# Altium footprint library Dashboard.PcbLib: 17 footprints (part 1 of 2)
Each footprint in its own frame and in the unit in brackets; x right, y up, seen from the top. Pads: shape width x height; smd on the part's side, far side on the other; paste and mask are expansions set on the pad; w line width, h text height; cw(c..) or ccw(c..) is an arc to the next point about the centre after c.
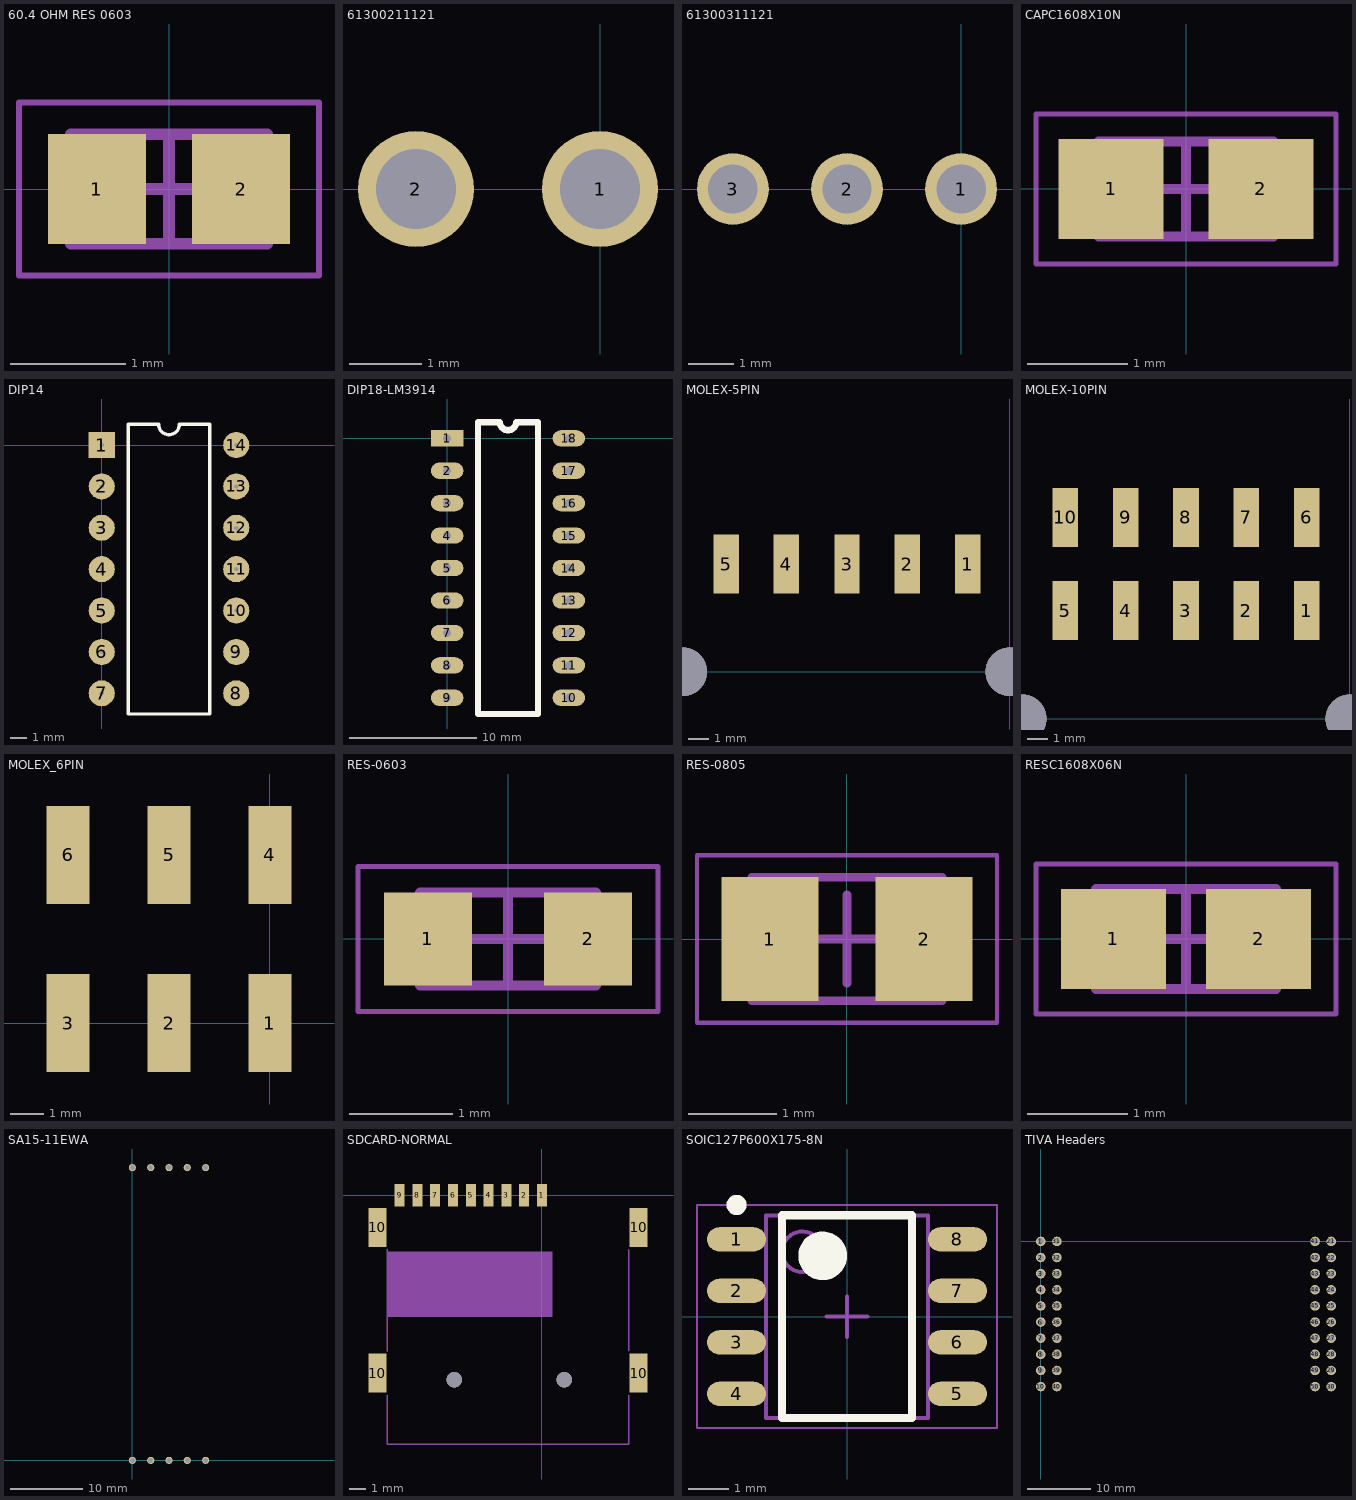
[diagram p0: the footprints below, top view; thin cyan lines are the x and y axes]

## 60.4 OHM RES 0603 [mm] "60.4 Ohms ±1% 0.1W, 1/10W Chip Resistor 0603 (1608 Metric) Automotive AEC-Q200 Thick Film"
height 0.55
pads (2):
  rect 0.85x0.95 smd: 1(-0.625,0) 2(0.625,0)
Mechanical 13:
  lines w0.1: -0.85,-0.475 -0.85,0.475 0.85,0.475 0.85,-0.475 -0.85,-0.475
Mechanical 15:
  lines w0.05: -1.3,-0.75 -1.3,0.75 1.3,0.75 1.3,-0.75 -1.3,-0.75
  lines w0.1: -0.475,0 0.475,0 ; 0,-0.475 0,0.475
3D body "60.4 OHM RES 0603.step": height 0.55, standoff 0, extent -0.85,-0.475 0.85,0.475

## 61300211121 [mm] "Connector Header Through Hole 2 position 0.100\" (2.54mm)"
pads (2):
  round 1.6 hole 1.1: 1(0,0) 2(-2.54,0)
3D body "61300211121.stp": height 8.27, standoff -3.27, extent -3.84,-1.27 1.24,1.27

## 61300311121 [mm] "Connector Header Through Hole 3 position 0.100\" (2.54mm)"
pads (3):
  round 1.6 hole 1.1: 1(0,0) 2(-2.54,0) 3(-5.08,0)
3D body "61300311121.stp": height 8.27, standoff -3.27, extent -6.35,-1.27 1.27,1.27

## CAPC1608X10N [mm] "Chip Capacitor, 2-Leads, Body 1.60x0.80mm, IPC Medium Density"
height 0.95
pads (2):
  rect 1.05x1 smd: 1(-0.75,0) 2(0.75,0)
Mechanical 13:
  lines w0.1: -0.875,-0.475 0.875,-0.475 0.875,0.475 -0.875,0.475 -0.875,-0.475
Mechanical 15:
  lines w0.05: -1.5,-0.75 1.5,-0.75 1.5,0.75 -1.5,0.75 -1.5,-0.75
  lines w0.1: -0.475,0 0.475,0 ; 0,-0.475 0,0.475
3D body "CAPC1608X10N.step": height 0.95, standoff 0, extent -0.875,-0.475 0.875,0.475

## DIP14 [mm]
pads (14):
  rect 1.6x1.6 hole 0.25: 1(0,0)
  round 1.6 hole 0.25: 2(0,-2.54) 3(0,-5.08) 4(0,-7.62) 5(0,-10.16) 6(0,-12.7) 7(0,-15.24) 8(8.26,-15.24) 9(8.26,-12.7) 10(8.26,-10.16) 11(8.26,-7.62) 12(8.26,-5.08) 13(8.26,-2.54) 14(8.26,0)
Top Overlay:
  lines w0.2: 1.635,-16.51 1.635,1.27 3.495,1.27 ccw(c4.13,1.27) 4.765,1.27 6.625,1.27 6.625,-16.51 1.635,-16.51

## DIP18-LM3914 [mm]
pads (18):
  rect 2.54x1.27 hole 0.635: 1(0,0)
  oval 2.54x1.27 hole 0.635: 2(0,-2.54) 3(0,-5.08) 4(0,-7.62) 5(0,-10.16) 6(0,-12.7) 7(0,-15.24) 8(0,-17.78) 9(0,-20.32) 10(9.525,-20.32) 11(9.525,-17.78) 12(9.525,-15.24) 13(9.525,-12.7) 14(9.525,-10.16) 15(9.525,-7.62) 16(9.525,-5.08) 17(9.525,-2.54) 18(9.525,0)
Top Overlay:
  lines w0.508: 2.413,-21.59 7.112,-21.59 7.112,1.27 5.397,1.27 cw(c4.763,1.27) 4.127,1.27 2.413,1.27 2.413,-21.59

## MOLEX-5PIN [mm] "Connector Header Surface Mount, Right Angle 5 position 0.118\" (3.00mm)"
pads (5):
  rect 1.27x2.92 smd: 1(-2.09,5.375) 2(-5.115,5.375) 3(-8.115,5.375) 4(-11.14,5.375) 5(-14.14,5.375)
via -16.3,0 diameter 2.41 hole 2.41
via 0,0 diameter 2.41 hole 2.41
3D body "436500509.stp": height 5.14, standoff -2.47, extent -17.44,-4.63 1.2,6.11

## MOLEX-10PIN [mm] "Connector Header Surface Mount, Right Angle 10 position 0.118\" (3.00mm)"
pads (10):
  rect 1.27x2.92 smd: 1(-2.15,5.38) 2(-5.15,5.38) 3(-8.15,5.38) 4(-11.15,5.38) 5(-14.15,5.38) 6(-2.15,10.01) 7(-5.15,10.01) 8(-8.15,10.01) 9(-11.15,10.01) 10(-14.15,10.01)
via -16.3,0 diameter 2.41 hole 2.41
via 0,0 diameter 2.41 hole 2.41
3D body "430451006.stp": height 8.73, standoff -2.03, extent -17.625,-4.605 1.525,10.795

## MOLEX_6PIN [mm] "0430450606"
pads (6):
  rect 1.27x2.92 smd: 1(0,0) 2(-3,0) 3(-6,0) 4(0,5) 5(-3,5) 6(-6,5)
via 2.15,-5.06 diameter 2.41 hole 2.41
via -8.15,-5.06 diameter 2.41 hole 2.41
3D body "430450606.stp": height 8.73, standoff -2.03, extent -9.575,-9.655 3.575,5.745

## RES-0603 [mm] "Chip Resistor, 2-Leads, Body 1.60x0.80mm, IPC Medium Density"
height 0.55
pads (2):
  rect 0.85x0.9 smd: 1(-0.775,0) 2(0.775,0)
Mechanical 13:
  lines w0.1: -0.85,-0.45 -0.85,0.45 0.85,0.45 0.85,-0.45 -0.85,-0.45
Mechanical 15:
  lines w0.05: -1.45,-0.7 -1.45,0.7 1.45,0.7 1.45,-0.7 -1.45,-0.7
  lines w0.1: -0.45,0 0.45,0 ; 0,-0.45 0,0.45
3D body "RESC1608X06N.step": height 0.55, standoff 0, extent -0.85,-0.45 0.85,0.45

## RES-0805 [mm] "Chip Resistor, 2-Leads, Body 2.00x1.25mm, IPC Medium Density"
height 0.6
pads (2):
  rect 1.1x1.4 smd: 1(-0.875,0) 2(0.875,0)
Mechanical 13:
  lines w0.1: -1.075,-0.7 1.075,-0.7 1.075,0.7 -1.075,0.7 -1.075,-0.7
Mechanical 15:
  lines w0.05: -1.7,-0.95 1.7,-0.95 1.7,0.95 -1.7,0.95 -1.7,-0.95
  lines w0.1: -0.5,0 0.5,0 ; 0,-0.5 0,0.5
3D body "RESC2012X06N.step": height 0.6, standoff 0, extent -1.075,-0.7 1.075,0.7

## RESC1608X06N [mm] "Chip Resistor, 2-Leads, Body 1.60x0.80mm, IPC Medium Density"
height 0.55
pads (2):
  rect 1.05x1 smd: 1(-0.725,0) 2(0.725,0)
Mechanical 13:
  lines w0.1: -0.9,-0.5 -0.9,0.5 0.9,0.5 0.9,-0.5 -0.9,-0.5
Mechanical 15:
  lines w0.05: -1.5,-0.75 -1.5,0.75 1.5,0.75 1.5,-0.75 -1.5,-0.75
  lines w0.1: -0.5,0 0.5,0 ; 0,-0.5 0,0.5
3D body "RESC1608X06N.step": height 0.55, standoff 0, extent -0.9,-0.5 0.9,0.5

## SA15-11EWA [mm] "1.5\" 7 Segment Display"
pads (10):
  round 1 hole 0.7: 1(0,0) 2(2.54,0) 3(5.08,0) 4(7.62,0) 5(10.16,0) 6(10.16,40.64) 7(7.62,40.64) 8(5.08,40.64) 9(2.54,40.64) 10(0,40.64)
3D body "SA15-11.sldprt": height 12.5, standoff -4, extent -11.475,-3.2 21.675,43.8

## SDCARD-NORMAL [mm] "9 (8 + 1) Position Card Connector microSD™ Surface Mount, Right Angle Gold"
pads (13):
  rect 0.62x1.4 smd: 1(0,0) 2(-1.1,0) 3(-2.2,0) 4(-3.3,0) 5(-4.4,0) 6(-5.5,0) 7(-6.6,0) 8(-7.7,0) 9(-8.8,0)
  rect 1.1x2.4 smd: 10(-10.175,-11) 10(-10.175,-2) 10(5.975,-11) 10(5.975,-2)
via -5.425,-11.425 diameter 0.95 hole 0.95
via 1.375,-11.425 diameter 0.95 hole 0.95
Mechanical 1:
  region: 0.65,-7.55 0.65,-3.5 -9.55,-3.5 -9.55,-7.55
  lines w0.1: -9.575,-12.375 -9.575,-15.4 5.375,-15.4 5.375,-12.375 ; -9.575,-9.65 -9.575,-3.35 ; 5.375,-9.625 5.375,-3.375

## SOIC127P600X175-8N [mm] "SOIC, 8-Leads, Body 4.90x3.90mm, Pitch 1.27mm, IPC Medium Density"
height 1.75
pads (8):
  oval 1.45x0.6 smd: 1(-2.725,1.905) 2(-2.725,0.635) 3(-2.725,-0.635) 4(-2.725,-1.905) 5(2.725,-1.905) 6(2.725,-0.635) 7(2.725,0.635) 8(2.725,1.905)
Top Overlay:
  circle w0.25: c-2.725,2.755 r0.125
  circle w0.6: c-0.6,1.5 r0.3
  lines w0.2: -1.6,-2.5 -1.6,2.5 1.6,2.5 1.6,-2.5 -1.6,-2.5
Mechanical 13:
  circle w0.1: c-1.1,1.6 r0.5
  lines w0.1: -2,-2.5 -2,2.5 2,2.5 2,-2.5 -2,-2.5
Mechanical 15:
  lines w0.05: -3.7,-2.75 -3.7,2.75 3.7,2.75 3.7,-2.75 -3.7,-2.75
  lines w0.1: -0.5,0 0.5,0 ; 0,-0.5 0,0.5
3D body "SOIC127P600X175-8N.step": height 1.75, standoff 0, extent -3,-2.5 3,2.5

## TIVA Headers [mm]
pads (40):
  round 1.5 hole 1.02: 1(0,0) 2(0,-2.54) 3(0,-5.08) 4(0,-7.62) 5(0,-10.16) 6(0,-12.7) 7(0,-15.24) 8(0,-17.78) 9(0,-20.32) 10(0,-22.86) 21(45.72,0) 22(45.72,-2.54) 23(45.72,-5.08) 24(45.72,-7.62) 25(45.72,-10.16) 26(45.72,-12.7) 27(45.72,-15.24) 28(45.72,-17.78) 29(45.72,-20.32) 30(45.72,-22.86) 31(2.54,0) 32(2.54,-2.54) 33(2.54,-5.08) 34(2.54,-7.62) 35(2.54,-10.16) 36(2.54,-12.7) 37(2.54,-15.24) 38(2.54,-17.78) 39(2.54,-20.32) 40(2.54,-22.86) 41(43.18,0) 42(43.18,-2.54) 43(43.18,-5.08) 44(43.18,-7.62) 45(43.18,-10.16) 46(43.18,-12.7) 47(43.18,-15.24) 48(43.18,-17.78) 49(43.18,-20.32) 50(43.18,-22.86)
3D body "PH2-20-UA.STEP": height 8.55, standoff -3, extent 41.975,-24.1 46.975,1.3
3D body "PH2-20-UA.STEP": height 8.55, standoff -3, extent -1.325,-23.8 3.675,1.6